# Altium footprint library BUTTON_SWITCHES.PcbLib: 6 footprints
Each footprint in its own frame and in the unit in brackets; x right, y up, seen from the top. Pads: shape width x height; smd on the part's side, far side on the other; paste and mask are expansions set on the pad; w line width, h text height; cw(c..) or ccw(c..) is an arc to the next point about the centre after c.
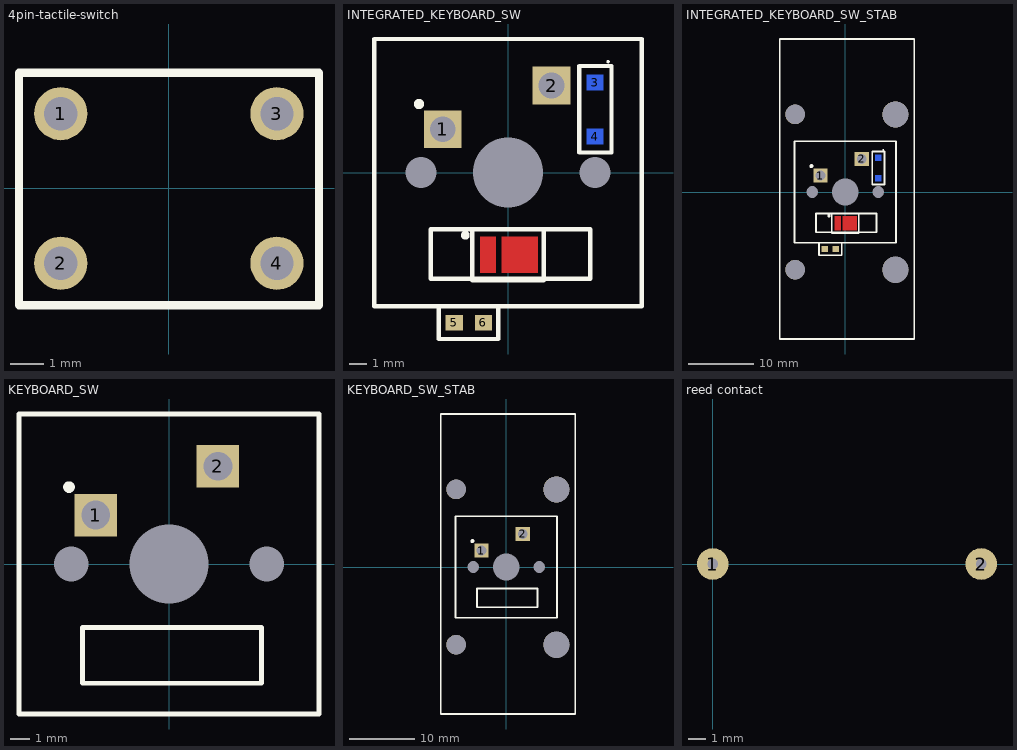
[diagram p0: the footprints below, top view; thin cyan lines are the x and y axes]

## 4pin-tactile-switch [mm]
pads (4):
  round 1.6 hole 1: 1(-3.25,2.25) 2(-3.25,-2.25) 3(3.25,2.25) 4(3.25,-2.25)
Top Overlay:
  lines w0.254: -4.507,-3.508 -4.507,3.476 4.517,3.476 4.517,-3.508 -4.507,-3.508
3D body "SWT0325-073016TSK_revA.STEP": height 7.3, standoff -3.5, extent -3.822,-3.048 4.076,2.952

## INTEGRATED_KEYBOARD_SW [mm]
pads (11):
  rect 2.2x2.2 hole 1.5: 1(-3.81,2.54) 2(2.54,5.08)
  rect 0.95x0.9 smd far side: 3(5.08,5.258) 4(5.08,2.108)
  rect 1x0.9 smd paste-2539.97: 5(-3.136,-8.763) 6(-1.436,-8.763)
  round 0.025 smd: 7(-1.173,-4.801) 8(0.686,-4.801)
  rect 0x0 / inner rect 1.8x1.8 / far side rect 0x0 hole 1.8 unplated: ""(-5.08,0) ""(5.08,0)
  rect 0x0 / inner rect 4.1x4.1 / far side rect 0x0 hole 4.1 unplated: ""(0,0)
Top Layer:
  region: -0.713,-3.751 -1.633,-3.751 -1.633,-5.851 -0.713,-5.851
  region: 1.746,-3.751 -0.374,-3.751 -0.374,-5.851 1.746,-5.851
Top Overlay:
  circle w0.254: c-2.489,-3.658 r0.127
  circle w0.4: c-5.2,4 r0.1
  circle w0.1: c5.842,6.477 r0.05
  lines w0.254: -4.033,-7.803 -4.033,-9.714 -0.56,-9.714 -0.56,-7.803 ; -2.128,-7.803 1.345,-7.803 ; 5.969,6.223 4.158,6.223 4.158,1.171 6.042,1.171 6.042,6.223 ; -7.8,-7.8 -7.8,7.8 7.8,7.8 7.8,-7.8 -7.8,-7.8 ; -4.5,-6.2 4.8,-6.2 4.8,-3.3 2.6,-3.3 -4.5,-3.3 -4.5,-3.6 -4.5,-6 -4.5,-6.2 ; -2.092,-6.288 -2.092,-3.319 2.083,-3.319 2.083,-6.288 -2.092,-6.288
Top Paste:
  region: -2.636,-9.213 -3.636,-9.213 -3.636,-8.313 -2.636,-8.313
  region: -0.936,-9.213 -1.936,-9.213 -1.936,-8.313 -0.936,-8.313
3D body "GW_JTLMS1.EM-GWH4-XX51-1.stp": height 0.7, standoff 0, extent -1.736,-6.226 1.801,-3.376
3D body "MX1A-E1NW--3DModel-STEP-56544.STEP": height 15.24, standoff -3.3, extent -7.747,-8.097 7.747,8.097
3D body "1N4148W-TP.STEP": height 1.45, standoff -0.08, extent 4.305,1.858 5.855,5.508
3D body "RC0603FR-7W1KL.STEP": height 0.81, standoff 0.01, extent -3.061,-9.195 -1.461,-8.295

## INTEGRATED_KEYBOARD_SW_STAB [mm]
pads (15):
  rect 2.2x2.2 hole 1.5: 1(-3.81,2.54) 2(2.54,5.08)
  rect 0.95x0.9 smd far side: 3(5.08,5.258) 4(5.08,2.108)
  rect 1x0.9 smd paste-2539.97: 5(-3.136,-8.763) 6(-1.436,-8.763)
  round 0.025 smd: 7(-1.173,-4.801) 8(0.686,-4.801)
  round 3 hole 3 unplated mask+0.1: ""(-7.7,-11.938) ""(-7.7,11.938)
  rect 0x0 / inner rect 1.8x1.8 / far side rect 0x0 hole 1.8 unplated: ""(-5.08,0) ""(5.08,0)
  rect 0x0 / inner rect 4.1x4.1 / far side rect 0x0 hole 4.1 unplated: ""(0,0)
  round 4 hole 4 unplated mask+0.1: ""(7.7,-11.938) ""(7.7,11.938)
Top Layer:
  region: -0.713,-3.751 -1.633,-3.751 -1.633,-5.851 -0.713,-5.851
  region: 1.746,-3.751 -0.374,-3.751 -0.374,-5.851 1.746,-5.851
Top Overlay:
  circle w0.254: c-2.489,-3.658 r0.127
  circle w0.4: c-5.2,4 r0.1
  circle w0.1: c5.842,6.477 r0.05
  lines w0.254: -4.033,-7.803 -4.033,-9.714 -0.56,-9.714 -0.56,-7.803 ; -2.128,-7.803 1.345,-7.803 ; 5.969,6.223 4.158,6.223 4.158,1.171 6.042,1.171 6.042,6.223 ; -10.078,-22.58 10.624,-22.58 10.624,23.517 -10.078,23.517 -10.078,-22.58 ; -7.8,-7.8 -7.8,7.8 7.8,7.8 7.8,-7.8 -7.8,-7.8 ; -4.5,-6.2 4.8,-6.2 4.8,-3.3 2.6,-3.3 -4.5,-3.3 -4.5,-3.6 -4.5,-6 -4.5,-6.2 ; -2.092,-6.288 -2.092,-3.319 2.083,-3.319 2.083,-6.288 -2.092,-6.288
Top Paste:
  region: -2.636,-9.213 -3.636,-9.213 -3.636,-8.313 -2.636,-8.313
  region: -0.936,-9.213 -1.936,-9.213 -1.936,-8.313 -0.936,-8.313
3D body "GW_JTLMS1.EM-GWH4-XX51-1.stp": height 0.7, standoff 0, extent -1.736,-6.226 1.801,-3.376
3D body "MX1A-E1NW--3DModel-STEP-56544.STEP": height 15.24, standoff -3.3, extent -7.747,-8.097 7.747,8.097
3D body "1N4148W-TP.STEP": height 1.45, standoff -0.08, extent 4.305,1.858 5.855,5.508
3D body "RC0603FR-7W1KL.STEP": height 0.81, standoff 0.01, extent -3.061,-9.195 -1.461,-8.295

## KEYBOARD_SW [mm]
pads (5):
  rect 2.2x2.2 hole 1.5: 1(-3.81,2.54) 2(2.54,5.08)
  rect 0x0 / inner rect 1.8x1.8 / far side rect 0x0 hole 1.8 unplated: ""(-5.08,0) ""(5.08,0)
  rect 0x0 / inner rect 4.1x4.1 / far side rect 0x0 hole 4.1 unplated: ""(0,0)
Top Overlay:
  circle w0.4: c-5.2,4 r0.1
  lines w0.254: -7.8,-7.8 7.8,-7.8 7.8,7.8 -7.8,7.8 -7.8,-7.8 ; -4.5,-6.2 -4.5,-6 -4.5,-3.6 -4.5,-3.3 2.6,-3.3 4.8,-3.3 4.8,-6.2 -4.5,-6.2
3D body "MX1A-E1NW--3DModel-STEP-56544.STEP": height 15.24, standoff -3.3, extent -7.747,-8.097 7.747,8.097

## KEYBOARD_SW_STAB [mm] "keyboard switch met 2U stabilizer"
pads (9):
  rect 2.2x2.2 hole 1.5: 1(-3.81,2.54) 2(2.54,5.08)
  round 3 hole 3 unplated mask+0.1: ""(-7.7,-11.938) ""(-7.7,11.938)
  rect 0x0 / inner rect 1.8x1.8 / far side rect 0x0 hole 1.8 unplated: ""(-5.08,0) ""(5.08,0)
  rect 0x0 / inner rect 4.1x4.1 / far side rect 0x0 hole 4.1 unplated: ""(0,0)
  round 4 hole 4 unplated mask+0.1: ""(7.7,-11.938) ""(7.7,11.938)
Top Overlay:
  circle w0.4: c-5.2,4 r0.1
  lines w0.254: -10.078,-22.58 -10.078,23.517 10.624,23.517 10.624,-22.58 -10.078,-22.58 ; -7.8,-7.8 -7.8,7.8 7.8,7.8 7.8,-7.8 -7.8,-7.8 ; -4.5,-6.2 4.8,-6.2 4.8,-3.3 2.6,-3.3 -4.5,-3.3 -4.5,-3.6 -4.5,-6 -4.5,-6.2
3D body "MX1A-E1NW--3DModel-STEP-56544.STEP": height 15.24, standoff -3.3, extent -7.747,-8.097 7.747,8.097

## reed contact [mm]
pads (2):
  round 1.8 hole 0.6: 1(0,0) 2(15.24,0)